# Altium footprint library CapAluminium.PcbLib: 51 footprints (part 3 of 4)
Each footprint in its own frame and in the unit in brackets; x right, y up, seen from the top. Pads: shape width x height; smd on the part's side, far side on the other; paste and mask are expansions set on the pad; w line width, h text height; cw(c..) or ccw(c..) is an arc to the next point about the centre after c.
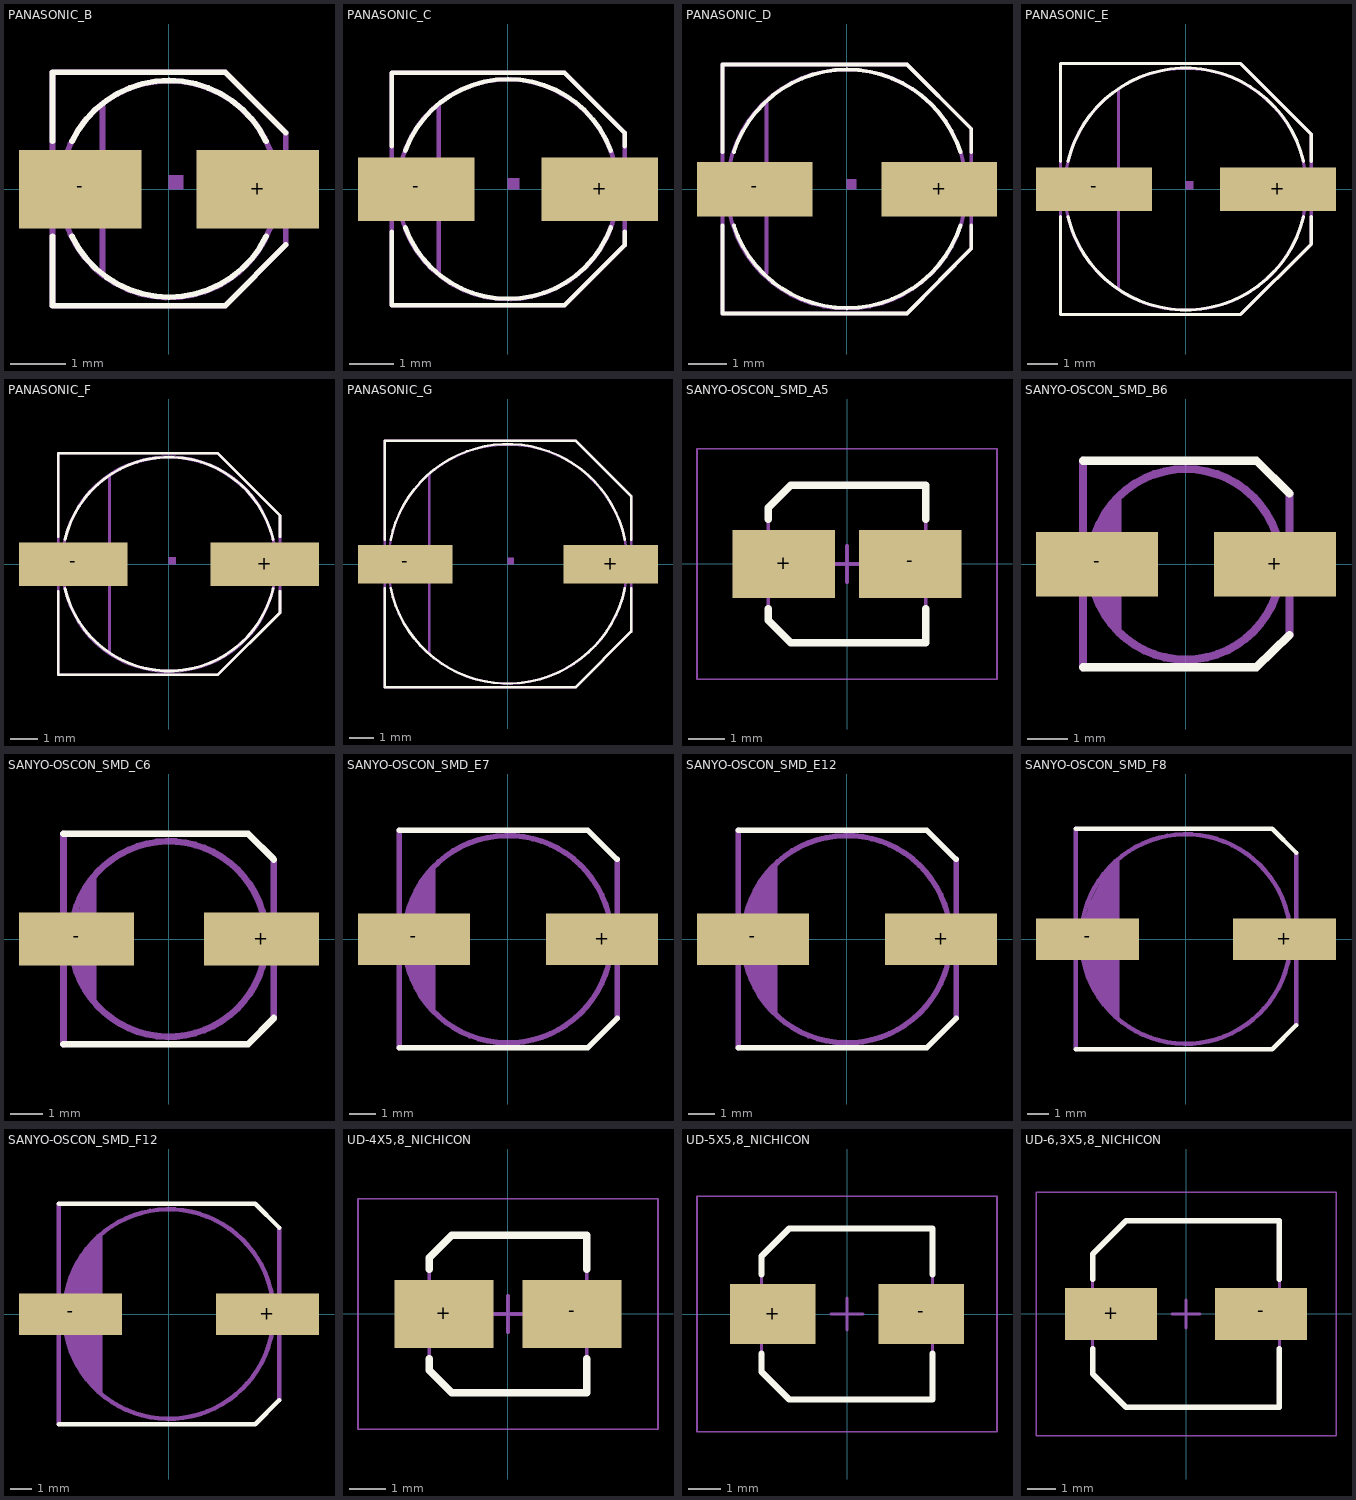
[diagram p2: the footprints below, top view; thin cyan lines are the x and y axes]

## PANASONIC_B [mil]
pads (2):
  rect 87x56 smd: +(63,0) -(-62.99,0)
Top Overlay:
  lines w4: -82.68,-33.46 -82.68,-82.68 40,-82.68 83,-39.37 ; -82.68,34 -82.68,83 40,83 83,40 ; -68.9,-33.46 ccw(c0.05,0.02) 69,-33.46 ; -68.9,34 cw(c0.05,0.51) 69,34
Mechanical 16:
  circle w4: c0,0 r77
  rectangle: -90.55,-13.78 -72.83,14
  rectangle: 75,-13.78 91,14
  region: 0,0 10,0 10,10 0,10
  lines w4: -47.24,-59.06 -47.24,60 ; -82.68,-82.68 40,-82.68 83,-39.37 83,40 40,83 -82.68,83 -82.68,-82.68
3D body "User Library-ALU-B.STEP": height 212.6, standoff 0, extent -91.55,-82.64 89.56,86.65

## PANASONIC_C [mil]
pads (2):
  rect 103x56 smd: +(81,0) -(-80.71,0)
Top Overlay:
  lines w4: -102.36,-37.4 -102.36,-102.36 50,-102.36 103,-49.21 103,-37.4 ; -102.36,38 -102.36,103 50,103 103,50 103,38 ; -90.55,-33.46 ccw(c0.22,0.08) 91,-33.46 ; -90.55,34 cw(c0.22,0.45) 91,34
Mechanical 16:
  circle w4: c0,0 r97
  rectangle: -116.14,-13.78 -94.49,14
  rectangle: 95,-13.78 117,14
  region: 0,0 10,0 10,10 0,10
  lines w4: -61.02,-72.83 -61.02,73 ; -102.36,-102.36 50,-102.36 103,-49.21 103,50 50,103 -102.36,103 -102.36,-102.36
3D body "User Library-ALU-C.STEP": height 212.99, standoff 0, extent -116.14,-104.33 116.14,104.33

## PANASONIC_D [mil]
pads (2):
  rect 119x56 smd: +(95,0) -(-94.49,0)
Top Overlay:
  lines w4: -127.95,-37.4 -127.95,-127.95 62,-127.95 128,-61.02 128,-37.4 ; -127.95,38 -127.95,128 62,128 128,62 128,38 ; -116.14,-37.4 ccw(c0.43,0.14) 117,-37.4 ; -116.14,38 cw(c0.43,0.46) 117,38
Mechanical 16:
  circle w4: c0,0 r123
  rectangle: 121,-13.78 144,14
  rectangle: -143.7,-13.78 -120.08,14
  region: 0,0 10,0 10,10 0,10
  lines w4: -82.68,-86.61 -82.68,89 ; -127.95,-127.95 -127.95,128 62,128 128,62 128,-61.02 62,-127.95 -127.95,-127.95
3D body "User Library-ALU-D.STEP": height 212.6, standoff 0, extent -141.79,-128.92 133.8,130.92

## PANASONIC_E [mil]
pads (2):
  rect 150x56 smd: +(119,0) -(-118.11,0)
Top Overlay:
  lines w4: -161.42,-35.43 -161.42,-161.42 71,-161.42 162,-70.87 162,-35.43 ; -161.42,36 -161.42,162 71,162 162,71 162,36 ; -151.57,-35.43 ccw(c0.21,0.05) 152,-35.43 ; -151.57,36 cw(c0.21,0.52) 152,36
Mechanical 16:
  circle w4: c0,0 r156
  rectangle: 150,-13.78 178,14
  rectangle: -177.17,-13.78 -149.61,14
  region: 0,0 10,0 10,10 0,10
  lines w4: -86.61,-127.95 -86.61,128 ; -161.42,-161.42 -161.42,162 71,162 162,71 162,-70.87 71,-161.42 -161.42,-161.42
3D body "User Library-ALU-E.STEP": height 244.09, standoff 0, extent -179.17,-162.39 175.16,164.39

## PANASONIC_F [mil]
pads (2):
  rect 158x63 smd: +(140,0) -(-139.76,0)
Top Overlay:
  lines w4: -161.42,-39.37 -161.42,-161.42 71,-161.42 162,-70.87 162,-39.37 ; -161.42,40 -161.42,162 71,162 162,71 162,40 ; -151.57,-35.43 ccw(c0.21,0.05) 152,-35.43 ; -151.57,36 cw(c0.21,0.52) 152,36
Mechanical 16:
  circle w4: c0,0 r156
  circle w1: c0,0 r158
  rectangle: 154,-17.72 191,18
  rectangle: -190.94,-17.72 -153.54,18
  region: 0,0 10,0 10,10 0,10
  lines w4: -86.61,-127.95 -86.61,128 ; -161.42,-161.42 -161.42,162 71,162 162,71 162,-70.87 71,-161.42 -161.42,-161.42
3D body "User Library-ALU-F.STEP": height 401.57, standoff 0, extent -194.89,-162.39 194.88,164.38

## PANASONIC_G [mil]
pads (2):
  rect 154x63 smd: +(168,0) -(-167.32,0)
Top Overlay:
  lines w4: -200.79,-39.37 -200.79,-200.79 111,-200.79 201,-110.24 201,-39.37 ; -200.79,40 -200.79,201 111,201 201,111 201,40 ; -190.94,-39.37 ccw(c0.03,0.01) 191,-39.37 ; -190.94,40 cw(c0.03,0.62) 191,40
Mechanical 16:
  circle w4: c0,0 r195
  rectangle: 193,-17.72 231,18
  rectangle: -230.31,-17.72 -192.91,18
  region: 0,0 10,0 10,10 0,10
  lines w4: -127.95,-143.7 -127.95,146 ; -200.79,-200.79 -200.79,201 111,201 201,111 201,-110.24 111,-200.79 -200.79,-200.79
3D body "User Library-ALU-G.STEP": height 401.57, standoff 0, extent -227.35,-201.76 229.34,203.76

## SANYO-OSCON_SMD_A5 [mm] "Aluminum Electrolytic Capacitor, Body 4,30x4,30x5,50mm, IPC Low Density"
height 5.5
pads (2):
  rect 2.8x1.85 smd: +(-1.725,0) -(1.725,0)
Top Overlay:
  lines w0.2: -2.15,-1.225 -2.15,-1.538 -1.538,-2.15 2.15,-2.15 2.15,-1.225 ; -2.15,1.225 -2.15,1.538 -1.538,2.15 2.15,2.15 2.15,1.225
Mechanical 13:
  lines w0.1: -2.15,-1.538 -1.538,-2.15 2.15,-2.15 2.15,2.15 -1.538,2.15 -2.15,1.538 -2.15,-1.538
Mechanical 15:
  lines w0.05: -4.1,-3.15 -4.1,3.15 4.1,3.15 4.1,-3.15 -4.1,-3.15
  lines w0.1: -0.5,0 0.5,0 ; 0,-0.5 0,0.5
3D body "SANYO-OSCON_SMD_A5.step": height 5.5, standoff 0, extent -2.3,-2.15 2.3,2.15

## SANYO-OSCON_SMD_B6 [mil]
pads (2):
  rect 119x63 smd: +(87,0) -(-86.61,0)
Top Overlay:
  lines w8: -100.39,-100.39 69,-100.39 101,-68.9 ; -100.39,101 69,101 101,69
Mechanical 16:
  circle w8: c0,0 r93
  region: -62.99,-64.96 -62.99,65 -68.89,58.21 -78.41,42.96 -85.43,26.4 -89.77,8.96 -90.55,0 -90.26,-9.05 -86.38,-26.72 -79.31,-43.39 -69.3,-58.47
  lines w8: -100.39,-100.39 -100.39,101 ; 101,-68.9 101,69
3D body "User Library-SMD Polymer Aluminum Electrolytic Capacitors B6.step": height 232.32, standoff -1.97, extent -119.1,-103.32 117.12,105.34

## SANYO-OSCON_SMD_C6 [mil]
pads (2):
  rect 138x63 smd: +(111,0) -(-110.24,0)
Top Overlay:
  lines w8: -125.98,-125.98 95,-125.98 126,-94.49 ; -125.98,126 95,126 126,95
Mechanical 16:
  circle w8: c0,0 r117
  region: -86.61,75 -86.61,-74.8 -92.9,-66.89 -102.6,-49.17 -109.14,-30.05 -112.33,-10.1 -112.2,0 -112.06,10.09 -108.62,29.98 -102.11,49.08 -92.67,66.93
  lines w8: -125.98,-125.98 -125.98,126 ; 126,-94.49 126,95
3D body "User Library-SMD Polymer Aluminum Electrolytic Capacitors C6.step": height 232.32, standoff -1.97, extent -143.7,-129.92 143.7,129.92

## SANYO-OSCON_SMD_E7 [mil]
pads (2):
  rect 164x75 smd: +(138,0) -(-137.8,0)
Top Overlay:
  lines w8: -159.45,-159.45 117,-159.45 160,-116.14 ; -159.45,160 117,160 160,117
Mechanical 16:
  circle w8: c0,0 r152
  region: -106.3,105 -106.3,-104.33 -111.55,-99.3 -120.95,-88.2 -129.16,-76.2 -136.08,-63.41 -141.66,-49.98 -145.82,-36.05 -148.53,-21.76 -149.75,-7.27 -149.61,0 -149.55,7.28 -148.05,21.77 -145.17,36.04 -140.93,49.98 -135.38,63.44 -128.56,76.31 -120.54,88.47 -111.4,99.8
  lines w8: -159.45,-159.45 -159.45,160 ; 160,-116.14 160,117
3D body "User Library-SMD Polymer Aluminum Electrolytic Capacitors E7.step": height 271.69, standoff -1.97, extent -172.16,-163.38 182.17,163.39

## SANYO-OSCON_SMD_E12 [mil]
pads (2):
  rect 164x75 smd: +(138,0) -(-137.8,0)
Top Overlay:
  lines w8: -159.45,-159.45 117,-159.45 160,-116.14 ; -159.45,160 117,160 160,117
Mechanical 16:
  circle w8: c0,0 r152
  region: -102.36,-108.27 -102.36,109 -107.96,103.74 -118.06,92.18 -126.98,79.69 -134.64,66.39 -140.96,52.39 -145.87,37.85 -149.34,22.9 -151.33,7.67 -151.57,0 -151.33,-7.63 -149.35,-22.77 -145.88,-37.65 -140.96,-52.11 -134.64,-66.01 -126.98,-79.22 -118.06,-91.61 -107.95,-103.07
  lines w8: -159.45,-159.45 -159.45,160 ; 160,-116.14 160,117
3D body "User Library-SMD Polymer Aluminum Electrolytic Capacitors E12.step": height 468.54, standoff -1.97, extent -177.16,-163.38 177.17,163.39

## SANYO-OSCON_SMD_F8 [mil]
pads (2):
  rect 186x75 smd: +(178,0) -(-177.17,0)
Top Overlay:
  lines w8: -198.82,-198.82 156,-198.82 199,-155.51 ; -198.82,199 156,199 199,156
Mechanical 16:
  circle w8: c0,0 r189
  region: -120.08,-143.7 -120.08,144 -127.33,136.9 -140.51,121.45 -152.23,104.88 -162.42,87.32 -170.97,68.91 -177.83,49.8 -182.94,30.15 -186.26,10.12 -187.01,0 -186.4,-10.13 -183.28,-30.2 -178.29,-49.88 -171.48,-69.01 -162.91,-87.41 -152.65,-104.93 -140.79,-121.41 -127.44,-136.71
  lines w8: -198.82,-198.82 -198.82,199 ; 199,-155.51 199,156
3D body "User Library-SMD Polymer Aluminum Electrolytic Capacitors F8.step": height 311.06, standoff -1.97, extent -216.53,-202.75 216.54,202.76

## SANYO-OSCON_SMD_F12 [mil]
pads (2):
  rect 186x75 smd: +(178,0) -(-177.17,0)
Top Overlay:
  lines w8: -198.82,-198.82 156,-198.82 199,-155.51 ; -198.82,199 156,199 199,156
Mechanical 16:
  circle w8: c0,0 r189
  region: -120.08,-143.7 -120.08,144 -127.84,137.32 -141.86,122.39 -154.21,106.06 -164.77,88.51 -173.4,69.94 -180.01,50.55 -184.53,30.58 -186.91,10.24 -187.01,0 -186.48,-10.15 -183.48,-30.25 -178.57,-49.98 -171.8,-69.14 -163.22,-87.57 -152.91,-105.09 -140.97,-121.54 -127.51,-136.77
  lines w8: -198.82,-198.82 -198.82,199 ; 199,-155.51 199,156
3D body "User Library-SMD Polymer Aluminum Electrolytic Capacitors F12.step": height 437.05, standoff -1.97, extent -216.53,-202.75 216.54,202.76

## UD-4X5,8_NICHICON [mm] "Aluminum Electrolytic Capacitor, Body 4,30x4,30x5,80mm, IPC Low Density"
height 5.8
pads (2):
  rect 2.7x1.85 smd: +(-1.75,0) -(1.75,0)
Top Overlay:
  lines w0.2: -2.15,-1.225 -2.15,-1.538 -1.538,-2.15 2.15,-2.15 2.15,-1.225 ; -2.15,1.225 -2.15,1.538 -1.538,2.15 2.15,2.15 2.15,1.225
Mechanical 13:
  lines w0.1: -2.15,-1.538 -2.15,1.538 -1.538,2.15 2.15,2.15 2.15,-2.15 -1.538,-2.15 -2.15,-1.538
Mechanical 15:
  lines w0.05: -4.1,-3.15 4.1,-3.15 4.1,3.15 -4.1,3.15 -4.1,-3.15
  lines w0.1: -0.5,0 0.5,0 ; 0,-0.5 0,0.5
3D body "UD-4X5,8_NICHICON.step": height 5.8, standoff 0, extent -2.3,-2.15 2.3,2.15

## UD-5X5,8_NICHICON [mm] "Aluminum Electrolytic Capacitor, Body 5,30x5,30x5,80mm, IPC Low Density"
height 5.8
pads (2):
  rect 2.65x1.85 smd: +(-2.3,0) -(2.3,0)
Top Overlay:
  lines w0.2: -2.65,-1.225 -2.65,-1.787 -1.787,-2.65 2.65,-2.65 2.65,-1.225 ; -2.65,1.225 -2.65,1.787 -1.787,2.65 2.65,2.65 2.65,1.225
Mechanical 13:
  lines w0.1: -2.65,-1.787 -1.787,-2.65 2.65,-2.65 2.65,2.65 -1.787,2.65 -2.65,1.787 -2.65,-1.787
Mechanical 15:
  lines w0.05: -4.65,-3.65 -4.65,3.65 4.65,3.65 4.65,-3.65 -4.65,-3.65
  lines w0.1: -0.5,0 0.5,0 ; 0,-0.5 0,0.5
3D body "UD-5X5,8_NICHICON.step": height 5.8, standoff 0, extent -2.85,-2.65 2.85,2.65

## UD-6,3X5,8_NICHICON [mm] "Aluminum Electrolytic Capacitor, Body 6,60x6,60x5,80mm, IPC Low Density"
height 5.8
pads (2):
  rect 3.25x1.85 smd: +(-2.65,0) -(2.65,0)
Top Overlay:
  lines w0.2: -3.3,-1.225 -3.3,-2.113 -2.113,-3.3 3.3,-3.3 3.3,-1.225 ; -3.3,1.225 -3.3,2.113 -2.113,3.3 3.3,3.3 3.3,1.225
Mechanical 13:
  lines w0.1: -3.3,-2.113 -3.3,2.113 -2.113,3.3 3.3,3.3 3.3,-3.3 -2.113,-3.3 -3.3,-2.113
Mechanical 15:
  lines w0.05: -5.3,-4.3 5.3,-4.3 5.3,4.3 -5.3,4.3 -5.3,-4.3
  lines w0.1: -0.5,0 0.5,0 ; 0,-0.5 0,0.5
3D body "UD-6,3X5,8_NICHICON.step": height 5.8, standoff -0.5, extent -3.5,-3.3 3.5,3.3